# Altium footprint library ScrewTerminal_2X.PcbLib: 1 footprints
Each footprint in its own frame and in the unit in brackets; x right, y up, seen from the top. Pads: shape width x height; smd on the part's side, far side on the other; paste and mask are expansions set on the pad; w line width, h text height; cw(c..) or ccw(c..) is an arc to the next point about the centre after c.
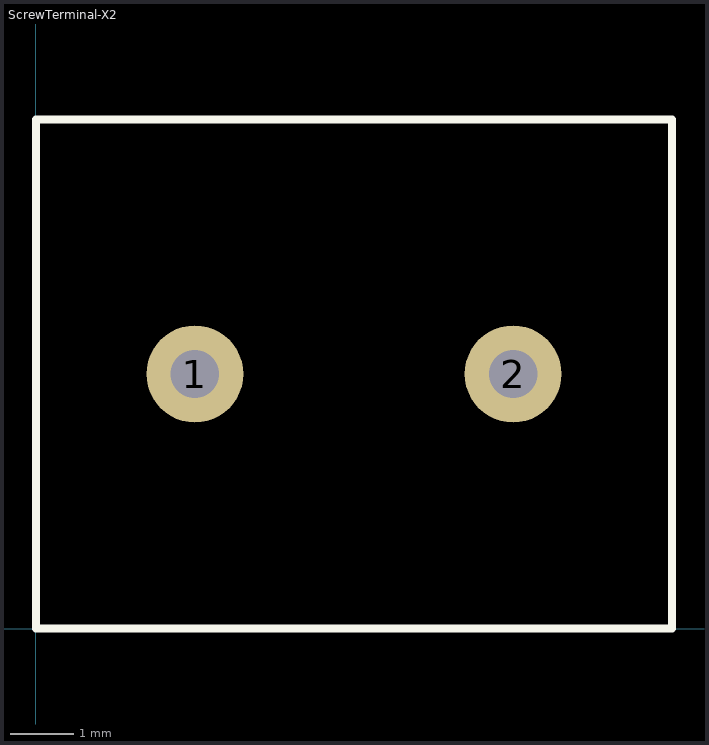
[diagram p0: the footprint, top view; thin cyan lines are the x and y axes]

## ScrewTerminal-X2 [mil]
pads (2):
  round 60 hole 30: 1(98.43,157.48) 2(295.28,157.48)
Top Overlay:
  lines w5: 0,0 0,314.96 393.7,314.96 393.7,0 0,0